# Altium schematic symbol library Converter_ACDC.SchLib: 233 symbols (part 3 of 3)
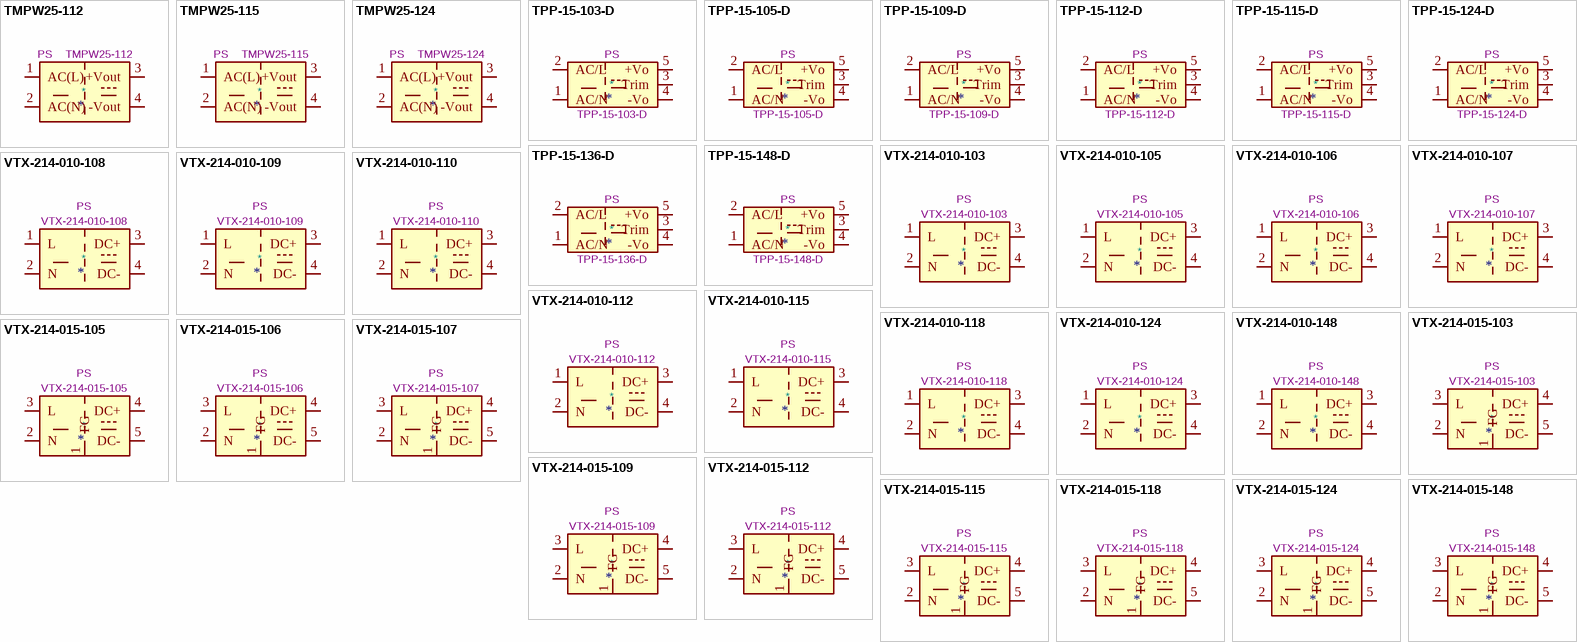
[diagram p7: symbols TMPW25-112 to VTX-214-015-148]

## TPP-15-103-D
designator *  value TPP-15-103-D  Reference: PS
3.3V, 4000mA, 15W, Isolated, AC-DC, Traco; ki_keywords: Medical Power Supply Traco; ki_fp_filters: Converter*ACDC*TRACO*TPP*15*THT*; Footprint: Converter_ACDC:Converter_ACDC_TRACO_TPP-15-1xx-D_THT; Datasheet: https://www.tracopower.com/sites/default/files/products/datasheets/tpp15_d_datasheet.pdf; Description_: 3.3V, 4000mA, 15W, Isolated, AC-DC, Traco
pins: 1 AC/N, 2 AC/L, 3 Trim, 4 -Vo, 5 +Vo

## TPP-15-105-D
designator *  value TPP-15-105-D  Reference: PS
5V, 3000mA, 15W, Isolated, AC-DC, Traco; ki_keywords: Medical Power Supply Traco; ki_fp_filters: Converter*ACDC*TRACO*TPP*15*THT*; Footprint: Converter_ACDC:Converter_ACDC_TRACO_TPP-15-1xx-D_THT; Datasheet: https://www.tracopower.com/sites/default/files/products/datasheets/tpp15_d_datasheet.pdf; Description_: 5V, 3000mA, 15W, Isolated, AC-DC, Traco
pins: 1 AC/N, 2 AC/L, 3 Trim, 4 -Vo, 5 +Vo

## TPP-15-109-D
designator *  value TPP-15-109-D  Reference: PS
9V, 1670mA, 15W, Isolated, AC-DC, Traco; ki_keywords: Medical Power Supply Traco; ki_fp_filters: Converter*ACDC*TRACO*TPP*15*THT*; Footprint: Converter_ACDC:Converter_ACDC_TRACO_TPP-15-1xx-D_THT; Datasheet: https://www.tracopower.com/sites/default/files/products/datasheets/tpp15_d_datasheet.pdf; Description_: 9V, 1670mA, 15W, Isolated, AC-DC, Traco
pins: 1 AC/N, 2 AC/L, 3 Trim, 4 -Vo, 5 +Vo

## TPP-15-112-D
designator *  value TPP-15-112-D  Reference: PS
12V, 1250mA, 15W, Isolated, AC-DC, Traco; ki_keywords: Medical Power Supply Traco; ki_fp_filters: Converter*ACDC*TRACO*TPP*15*THT*; Footprint: Converter_ACDC:Converter_ACDC_TRACO_TPP-15-1xx-D_THT; Datasheet: https://www.tracopower.com/sites/default/files/products/datasheets/tpp15_d_datasheet.pdf; Description_: 12V, 1250mA, 15W, Isolated, AC-DC, Traco
pins: 1 AC/N, 2 AC/L, 3 Trim, 4 -Vo, 5 +Vo

## TPP-15-115-D
designator *  value TPP-15-115-D  Reference: PS
15V, 1000mA, 15W, Isolated, AC-DC, Traco; ki_keywords: Medical Power Supply Traco; ki_fp_filters: Converter*ACDC*TRACO*TPP*15*THT*; Footprint: Converter_ACDC:Converter_ACDC_TRACO_TPP-15-1xx-D_THT; Datasheet: https://www.tracopower.com/sites/default/files/products/datasheets/tpp15_d_datasheet.pdf; Description_: 15V, 1000mA, 15W, Isolated, AC-DC, Traco
pins: 1 AC/N, 2 AC/L, 3 Trim, 4 -Vo, 5 +Vo

## TPP-15-124-D
designator *  value TPP-15-124-D  Reference: PS
24V, 625mA, 15W, Isolated, AC-DC, Traco; ki_keywords: Medical Power Supply Traco; ki_fp_filters: Converter*ACDC*TRACO*TPP*15*THT*; Footprint: Converter_ACDC:Converter_ACDC_TRACO_TPP-15-1xx-D_THT; Datasheet: https://www.tracopower.com/sites/default/files/products/datasheets/tpp15_d_datasheet.pdf; Description_: 24V, 625mA, 15W, Isolated, AC-DC, Traco
pins: 1 AC/N, 2 AC/L, 3 Trim, 4 -Vo, 5 +Vo

## TPP-15-136-D
designator *  value TPP-15-136-D  Reference: PS
36V, 417mA, 15W, Isolated, AC-DC, Traco; ki_keywords: Medical Power Supply Traco; ki_fp_filters: Converter*ACDC*TRACO*TPP*15*THT*; Footprint: Converter_ACDC:Converter_ACDC_TRACO_TPP-15-1xx-D_THT; Datasheet: https://www.tracopower.com/sites/default/files/products/datasheets/tpp15_d_datasheet.pdf; Description_: 36V, 417mA, 15W, Isolated, AC-DC, Traco
pins: 1 AC/N, 2 AC/L, 3 Trim, 4 -Vo, 5 +Vo

## TPP-15-148-D
designator *  value TPP-15-148-D  Reference: PS
48V, 313mA, 15W, Isolated, AC-DC, Traco; ki_keywords: Medical Power Supply Traco; ki_fp_filters: Converter*ACDC*TRACO*TPP*15*THT*; Footprint: Converter_ACDC:Converter_ACDC_TRACO_TPP-15-1xx-D_THT; Datasheet: https://www.tracopower.com/sites/default/files/products/datasheets/tpp15_d_datasheet.pdf; Description_: 48V, 313mA, 15W, Isolated, AC-DC, Traco
pins: 1 AC/N, 2 AC/L, 3 Trim, 4 -Vo, 5 +Vo

## VTX-214-010-103
designator *  value VTX-214-010-103  Reference: PS
3V Vigortronix 10W ACDC Converters; ki_keywords: 3V 10W AC-DC module power supply; ki_fp_filters: Converter*ACDC*Vigortronix*VTX*214*010*1xx*; Footprint: Converter_ACDC:Converter_ACDC_Vigortronix_VTX-214-010-1xx_THT; Datasheet: http://www.vigortronix.com/10WattACDCPCBPowerModule.aspx; Description_: 3V Vigortronix 10W ACDC Converters
pins: 1 L, 2 N, 3 DC+, 4 DC-

## VTX-214-010-105
designator *  value VTX-214-010-105  Reference: PS
5V Vigortronix 10W ACDC Converters; ki_keywords: 5V 10W AC-DC module power supply; ki_fp_filters: Converter*ACDC*Vigortronix*VTX*214*010*1xx*; Footprint: Converter_ACDC:Converter_ACDC_Vigortronix_VTX-214-010-1xx_THT; Datasheet: http://www.vigortronix.com/10WattACDCPCBPowerModule.aspx; Description_: 5V Vigortronix 10W ACDC Converters
pins: 1 L, 2 N, 3 DC+, 4 DC-

## VTX-214-010-106
designator *  value VTX-214-010-106  Reference: PS
6V Vigortronix 10W ACDC Converters; ki_keywords: 6V 10W AC-DC module power supply; ki_fp_filters: Converter*ACDC*Vigortronix*VTX*214*010*1xx*; Footprint: Converter_ACDC:Converter_ACDC_Vigortronix_VTX-214-010-1xx_THT; Datasheet: http://www.vigortronix.com/10WattACDCPCBPowerModule.aspx; Description_: 6V Vigortronix 10W ACDC Converters
pins: 1 L, 2 N, 3 DC+, 4 DC-

## VTX-214-010-107
designator *  value VTX-214-010-107  Reference: PS
7.5V Vigortronix 10W ACDC Converters; ki_keywords: 7.5V 10W AC-DC module power supply; ki_fp_filters: Converter*ACDC*Vigortronix*VTX*214*010*1xx*; Footprint: Converter_ACDC:Converter_ACDC_Vigortronix_VTX-214-010-1xx_THT; Datasheet: http://www.vigortronix.com/10WattACDCPCBPowerModule.aspx; Description_: 7.5V Vigortronix 10W ACDC Converters
pins: 1 L, 2 N, 3 DC+, 4 DC-

## VTX-214-010-108
designator *  value VTX-214-010-108  Reference: PS
8V Vigortronix 10W ACDC Converters; ki_keywords: 8V 10W AC-DC module power supply; ki_fp_filters: Converter*ACDC*Vigortronix*VTX*214*010*1xx*; Footprint: Converter_ACDC:Converter_ACDC_Vigortronix_VTX-214-010-1xx_THT; Datasheet: http://www.vigortronix.com/10WattACDCPCBPowerModule.aspx; Description_: 8V Vigortronix 10W ACDC Converters
pins: 1 L, 2 N, 3 DC+, 4 DC-

## VTX-214-010-109
designator *  value VTX-214-010-109  Reference: PS
9V Vigortronix 10W ACDC Converters; ki_keywords: 9V 10W AC-DC module power supply; ki_fp_filters: Converter*ACDC*Vigortronix*VTX*214*010*1xx*; Footprint: Converter_ACDC:Converter_ACDC_Vigortronix_VTX-214-010-1xx_THT; Datasheet: http://www.vigortronix.com/10WattACDCPCBPowerModule.aspx; Description_: 9V Vigortronix 10W ACDC Converters
pins: 1 L, 2 N, 3 DC+, 4 DC-

## VTX-214-010-110
designator *  value VTX-214-010-110  Reference: PS
10V Vigortronix 10W ACDC Converters; ki_keywords: 10V 10W AC-DC module power supply; ki_fp_filters: Converter*ACDC*Vigortronix*VTX*214*010*1xx*; Footprint: Converter_ACDC:Converter_ACDC_Vigortronix_VTX-214-010-1xx_THT; Datasheet: http://www.vigortronix.com/10WattACDCPCBPowerModule.aspx; Description_: 10V Vigortronix 10W ACDC Converters
pins: 1 L, 2 N, 3 DC+, 4 DC-

## VTX-214-010-112
designator *  value VTX-214-010-112  Reference: PS
12V Vigortronix 10W ACDC Converters; ki_keywords: 12V 10W AC-DC module power supply; ki_fp_filters: Converter*ACDC*Vigortronix*VTX*214*010*1xx*; Footprint: Converter_ACDC:Converter_ACDC_Vigortronix_VTX-214-010-1xx_THT; Datasheet: http://www.vigortronix.com/10WattACDCPCBPowerModule.aspx; Description_: 12V Vigortronix 10W ACDC Converters
pins: 1 L, 2 N, 3 DC+, 4 DC-

## VTX-214-010-115
designator *  value VTX-214-010-115  Reference: PS
15V Vigortronix 10W ACDC Converters; ki_keywords: 15V 10W AC-DC module power supply; ki_fp_filters: Converter*ACDC*Vigortronix*VTX*214*010*1xx*; Footprint: Converter_ACDC:Converter_ACDC_Vigortronix_VTX-214-010-1xx_THT; Datasheet: http://www.vigortronix.com/10WattACDCPCBPowerModule.aspx; Description_: 15V Vigortronix 10W ACDC Converters
pins: 1 L, 2 N, 3 DC+, 4 DC-

## VTX-214-010-118
designator *  value VTX-214-010-118  Reference: PS
18V Vigortronix 10W ACDC Converters; ki_keywords: 18V 10W AC-DC module power supply; ki_fp_filters: Converter*ACDC*Vigortronix*VTX*214*010*1xx*; Footprint: Converter_ACDC:Converter_ACDC_Vigortronix_VTX-214-010-1xx_THT; Datasheet: http://www.vigortronix.com/10WattACDCPCBPowerModule.aspx; Description_: 18V Vigortronix 10W ACDC Converters
pins: 1 L, 2 N, 3 DC+, 4 DC-

## VTX-214-010-124
designator *  value VTX-214-010-124  Reference: PS
24V Vigortronix 10W ACDC Converters; ki_keywords: 24V 10W AC-DC module power supply; ki_fp_filters: Converter*ACDC*Vigortronix*VTX*214*010*1xx*; Footprint: Converter_ACDC:Converter_ACDC_Vigortronix_VTX-214-010-1xx_THT; Datasheet: http://www.vigortronix.com/10WattACDCPCBPowerModule.aspx; Description_: 24V Vigortronix 10W ACDC Converters
pins: 1 L, 2 N, 3 DC+, 4 DC-

## VTX-214-010-148
designator *  value VTX-214-010-148  Reference: PS
48V Vigortronix 10W ACDC Converters; ki_keywords: 48V 10W AC-DC module power supply; ki_fp_filters: Converter*ACDC*Vigortronix*VTX*214*010*1xx*; Footprint: Converter_ACDC:Converter_ACDC_Vigortronix_VTX-214-010-1xx_THT; Datasheet: http://www.vigortronix.com/10WattACDCPCBPowerModule.aspx; Description_: 48V Vigortronix 10W ACDC Converters
pins: 1 L, 2 N, 3 DC+, 4 DC-

## VTX-214-015-103
designator *  value VTX-214-015-103  Reference: PS
3V Vigortronix 15W ACDC Converters; ki_keywords: 3V 15W AC-DC module power supply; ki_fp_filters: Converter*ACDC*Vigortronix*VTX*214*015*1xx*; Footprint: Converter_ACDC:Converter_ACDC_Vigortronix_VTX-214-015-1xx_THT; Datasheet: http://www.vigortronix.com/15WattSMPSPCBModuleAC-DC; Description_: 3V Vigortronix 15W ACDC Converters
pins: 1 FG, 2 N, 3 L, 4 DC+, 5 DC-

## VTX-214-015-105
designator *  value VTX-214-015-105  Reference: PS
5V Vigortronix 15W ACDC Converters; ki_keywords: 5V 15W AC-DC module power supply; ki_fp_filters: Converter*ACDC*Vigortronix*VTX*214*015*1xx*; Footprint: Converter_ACDC:Converter_ACDC_Vigortronix_VTX-214-015-1xx_THT; Datasheet: http://www.vigortronix.com/15WattSMPSPCBModuleAC-DC; Description_: 5V Vigortronix 15W ACDC Converters
pins: 1 FG, 2 N, 3 L, 4 DC+, 5 DC-

## VTX-214-015-106
designator *  value VTX-214-015-106  Reference: PS
6V Vigortronix 15W ACDC Converters; ki_keywords: 6V 15W AC-DC module power supply; ki_fp_filters: Converter*ACDC*Vigortronix*VTX*214*015*1xx*; Footprint: Converter_ACDC:Converter_ACDC_Vigortronix_VTX-214-015-1xx_THT; Datasheet: http://www.vigortronix.com/15WattSMPSPCBModuleAC-DC; Description_: 6V Vigortronix 15W ACDC Converters
pins: 1 FG, 2 N, 3 L, 4 DC+, 5 DC-

## VTX-214-015-107
designator *  value VTX-214-015-107  Reference: PS
7V Vigortronix 15W ACDC Converters; ki_keywords: 7V 15W AC-DC module power supply; ki_fp_filters: Converter*ACDC*Vigortronix*VTX*214*015*1xx*; Footprint: Converter_ACDC:Converter_ACDC_Vigortronix_VTX-214-015-1xx_THT; Datasheet: http://www.vigortronix.com/15WattSMPSPCBModuleAC-DC; Description_: 7V Vigortronix 15W ACDC Converters
pins: 1 FG, 2 N, 3 L, 4 DC+, 5 DC-

## VTX-214-015-109
designator *  value VTX-214-015-109  Reference: PS
9V Vigortronix 15W ACDC Converters; ki_keywords: 9V 15W AC-DC module power supply; ki_fp_filters: Converter*ACDC*Vigortronix*VTX*214*015*1xx*; Footprint: Converter_ACDC:Converter_ACDC_Vigortronix_VTX-214-015-1xx_THT; Datasheet: http://www.vigortronix.com/15WattSMPSPCBModuleAC-DC; Description_: 9V Vigortronix 15W ACDC Converters
pins: 1 FG, 2 N, 3 L, 4 DC+, 5 DC-

## VTX-214-015-112
designator *  value VTX-214-015-112  Reference: PS
12V Vigortronix 15W ACDC Converters; ki_keywords: 12V 15W AC-DC module power supply; ki_fp_filters: Converter*ACDC*Vigortronix*VTX*214*015*1xx*; Footprint: Converter_ACDC:Converter_ACDC_Vigortronix_VTX-214-015-1xx_THT; Datasheet: http://www.vigortronix.com/15WattSMPSPCBModuleAC-DC; Description_: 12V Vigortronix 15W ACDC Converters
pins: 1 FG, 2 N, 3 L, 4 DC+, 5 DC-

## VTX-214-015-115
designator *  value VTX-214-015-115  Reference: PS
15V Vigortronix 15W ACDC Converters; ki_keywords: 15V 15W AC-DC module power supply; ki_fp_filters: Converter*ACDC*Vigortronix*VTX*214*015*1xx*; Footprint: Converter_ACDC:Converter_ACDC_Vigortronix_VTX-214-015-1xx_THT; Datasheet: http://www.vigortronix.com/15WattSMPSPCBModuleAC-DC; Description_: 15V Vigortronix 15W ACDC Converters
pins: 1 FG, 2 N, 3 L, 4 DC+, 5 DC-

## VTX-214-015-118
designator *  value VTX-214-015-118  Reference: PS
18V Vigortronix 15W ACDC Converters; ki_keywords: 18V 15W AC-DC module power supply; ki_fp_filters: Converter*ACDC*Vigortronix*VTX*214*015*1xx*; Footprint: Converter_ACDC:Converter_ACDC_Vigortronix_VTX-214-015-1xx_THT; Datasheet: http://www.vigortronix.com/15WattSMPSPCBModuleAC-DC; Description_: 18V Vigortronix 15W ACDC Converters
pins: 1 FG, 2 N, 3 L, 4 DC+, 5 DC-

## VTX-214-015-124
designator *  value VTX-214-015-124  Reference: PS
24V Vigortronix 15W ACDC Converters; ki_keywords: 24V 15W AC-DC module power supply; ki_fp_filters: Converter*ACDC*Vigortronix*VTX*214*015*1xx*; Footprint: Converter_ACDC:Converter_ACDC_Vigortronix_VTX-214-015-1xx_THT; Datasheet: http://www.vigortronix.com/15WattSMPSPCBModuleAC-DC; Description_: 24V Vigortronix 15W ACDC Converters
pins: 1 FG, 2 N, 3 L, 4 DC+, 5 DC-

## VTX-214-015-148
designator *  value VTX-214-015-148  Reference: PS
48V Vigortronix 15W ACDC Converters; ki_keywords: 48V 15W AC-DC module power supply; ki_fp_filters: Converter*ACDC*Vigortronix*VTX*214*015*1xx*; Footprint: Converter_ACDC:Converter_ACDC_Vigortronix_VTX-214-015-1xx_THT; Datasheet: http://www.vigortronix.com/15WattSMPSPCBModuleAC-DC; Description_: 48V Vigortronix 15W ACDC Converters
pins: 1 FG, 2 N, 3 L, 4 DC+, 5 DC-